# EAGLE library part SIM_CARD_693043020611 (library IntegratedLib)
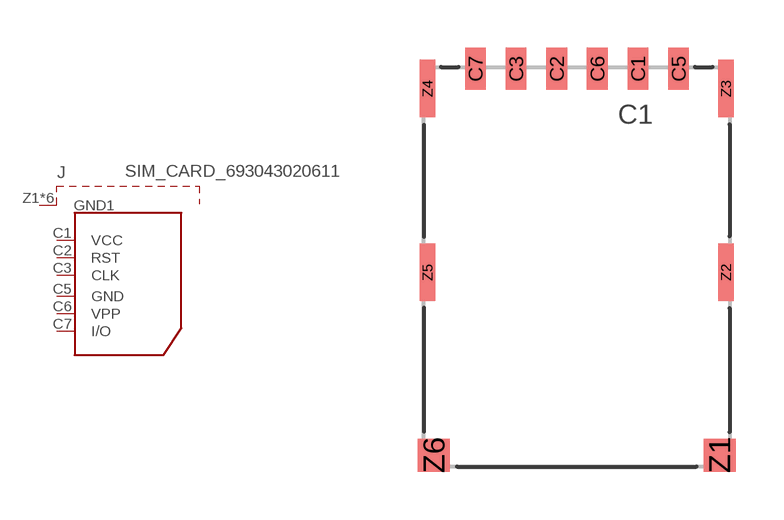
[diagram p43: symbol with the pads of SIM_CARD_693043020611; footprint SIM_CARD_693043020611]

Designator prefix J

## SIM_CARD_693043020611  [SIM_CARD_693043020611]
C1  VCC
C2  RST
C3  CLK
C5  GND
C6  VPP
C7  I/O
Z1  GND1
Z2  GND1
Z3  GND1
Z4  GND1
Z5  GND1
Z6  GND1

## Footprint SIM_CARD_693043020611 (pad centres in mm)
smd 0.65 x 1.3: C1 1.98,6.51; C2 -0.56,6.51; C3 -1.83,6.51; C5 3.25,6.51; C6 0.71,6.51; C7 -3.1,6.51
smd 1 x 1.03: Z1 4.535,-5.58; Z6 -4.395,-5.58
smd 0.48 x 1.8: Z2 4.73,0.14; Z3 4.73,5.89; Z4 -4.6,5.89; Z5 -4.6,0.14